# Altium footprint library MX-6_LED.PcbLib: 1 footprints
Each footprint in its own frame and in the unit in brackets; x right, y up, seen from the top. Pads: shape width x height; smd on the part's side, far side on the other; paste and mask are expansions set on the pad; w line width, h text height; cw(c..) or ccw(c..) is an arc to the next point about the centre after c.
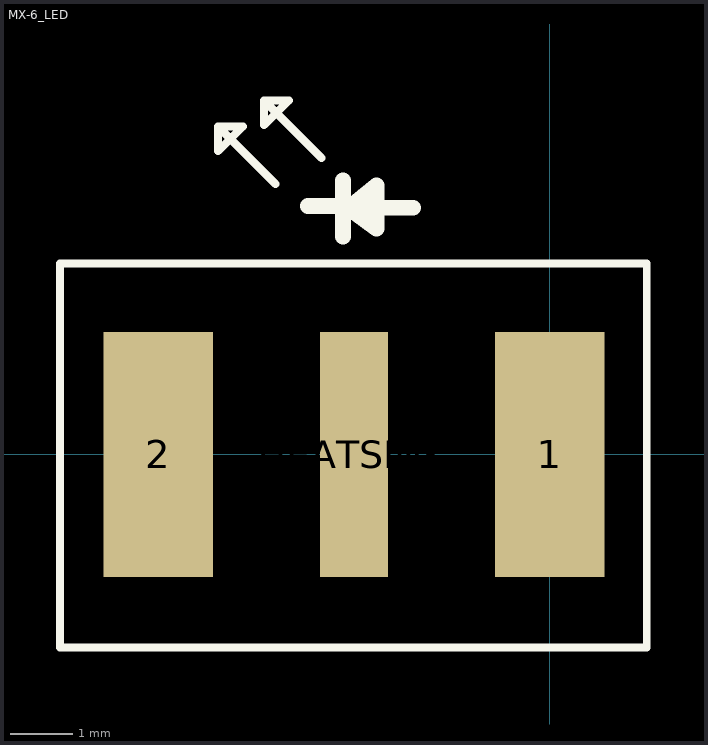
[diagram p0: the footprint, top view; thin cyan lines are the x and y axes]

## MX-6_LED [mil]
pads (3):
  rect 69x154 smd: 1(0,0) 2(-246,0)
  rect 43x154 smd: HEATSINK(-123,0)
TopOverlay:
  lines w5: -172.38,169.9 -208.44,205.96 ; -143.5,186.24 -179.56,222.3 ; -208.44,205.96 -208.24,206.16 -192.79,206.16 -208.44,190.5 -208.44,205.96 ; -179.56,222.3 -179.56,206.85 -163.9,222.51 -179.35,222.51 -179.56,222.3 ; -307.68,-121.58 -307.68,119.93 61.02,119.93 61.02,-121.58 -307.68,-121.58
  lines w10: -151.93,155.97 -127.93,155.97 ; -129.93,136.97 -129.93,171.97 ; -126.93,154.97 -108.93,141.97 -108.93,168.97 -125.93,154.97 -85.93,154.97
3D body: height 0, standoff -53.15, extent -250.54,-98.54 5.36,98.31